# Altium schematic symbol library Diodes.SchLib: 20 symbols
Pins are listed as number, name and electrical type; pins without a type are passive.

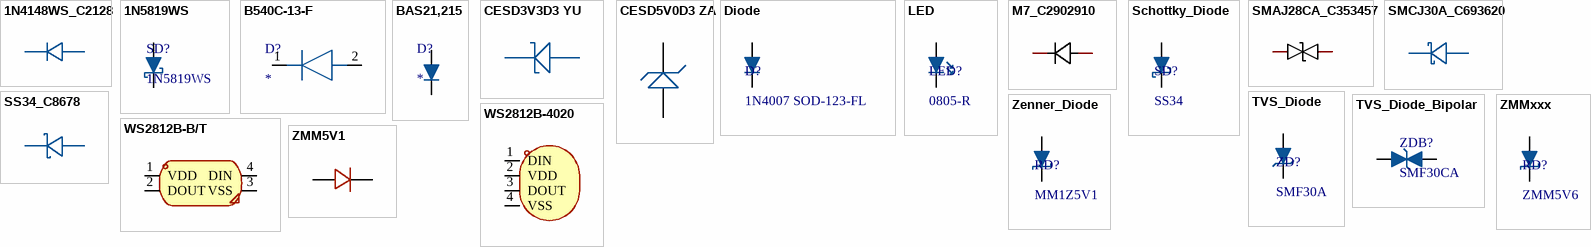
[diagram p0: symbols 1N4148WS_C2128 to ZMMxxx]

## 1N4148WS_C2128
designator D??  (value not drawn)
二极管配置:独立式;功率:200mW;直流反向耐压(Vr):100V;平均整流电流(Io):150mA;正向压降(Vf):1.25V@150mA;反向电流(Ir):1uA@75V;反向恢复时间(trr):4ns;工作温度:+150℃@(Tj);; Manufacturer: CJ(江苏长电/长晶); Symbol: 1N4148WS T4; Add into BOM: yes; Diode Configuration: 独立式; Power Dissipation: 200mW; Reverse Voltage (Vr): 100V; Average Rectified Current (Io): 150mA; Reverse Recovery Time (trr): 4ns; Name: 1N4148WS; Device: 1N4148WS_C2128; LCSC Part Name: 100V 150mA 4ns T4; Supplier Part: C2128; Manufacturer Part: 1N4148WS; Supplier Footprint: SOD-323; Supplier: LCSC; Convert to PCB: yes; Forward Voltage (Vf@If): 1.25V@150mA; Reverse Leakage Current: 1uA@75V; Operating Temperature: +150℃@(Tj)
footprint SOD-323_L1.8-W1.3-LS2.5-RD
3D model SOD-323_L1.7-W1.3-H1.1-LS2.5
pins: 1 K, 2 A

## 1N5819WS
designator SD?
SCHOTTKY BARRIER DIODE, 40V, 1A; Type: 1N5819WS
footprint SODFL250X115-2N_SOD323 (SODFL, 2-Leads, Body 1.25x2.50mm, IPC Medium Density)
pins: 1, 2

## B540C-13-F
designator D?
Diode; Manufacturer_Name: Diodes Incorporated; Manufacturer_Part_Number: B540C-13-F; Datasheet Link: https://componentsearchengine.com/Datasheets/2/B540C-13-F.pdf; Height: 2.5mm; Mouser Part Number: 621-B540C-F; Mouser Price/Stock: https://www.mouser.co.uk/ProductDetail/Diodes-Incorporated/B540C-13-F?qs=v2dnQLbuoRZXHN%2FK4ft5%252Bg%3D%3D; Arrow Part Number: B540C-13-F; Arrow Price/Stock: https://www.arrow.com/en/products/b540c-13-f/diodes-incorporated?region=nac
footprint DIOM7959X250N
pins: 1, 2

## BAS21,215
designator D?
Diode; Manufacturer_Name: Nexperia; Manufacturer_Part_Number: BAS21,215; Datasheet Link: https://assets.nexperia.com/documents/data-sheet/BAS21.pdf; Height: 1.1mm; Mouser Part Number: 771-BAS21-T/R; Mouser Price/Stock: https://www.mouser.co.uk/ProductDetail/Nexperia/BAS21215?qs=me8TqzrmIYVAUvbefFMRnQ%3D%3D; Arrow Part Number: BAS21,215; Arrow Price/Stock: https://www.arrow.com/en/products/bas21215/nexperia
footprint SOT-23 (SOT23, 3-Leads, Body 2.90x2.45mm, Pitch 0.95mm, IPC Medium Density)
footprint BAS21215
pins: 1 A, 3 K

## CESD3V3D3 YU
designator E??  (value not drawn)
极性:单向;反向截止电压(Vrwm):3.3V;击穿电压(VBR):5V;钳位电压(Vc)@Ipp:13V;; Manufacturer: CJ(江苏长电/长晶); Add into BOM: yes; Polarity: 单向; Reverse Stand-Off Voltage (Vrwm): 3.3V; Breakdown Voltage (VBR): 5V; Peak Pulse Current(Ipp)@8/20us: 16A; Clamping Voltage@Ipp: 13V; Name: CESD3V3D3 YU; Symbol: CESD3V3D3; Device: CESD3V3D3 YU; LCSC Part Name: 单向ESD; Supplier Part: C38388; Manufacturer Part: CESD3V3D3 YU; Supplier Footprint: SOD-323; Datasheet: https://atta.szlcsc.com/upload/public/pdf/source/20150915/1457707371129.pdf; Supplier: LCSC; Convert to PCB: yes
footprint SOD-323_L1.8-W1.3-LS2.5-RD
3D model SOD-323_L1.7-W1.3-H1.1-LS2.5
pins: 1, 2

## CESD5V0D3 ZA
designator E??  (value not drawn)
Manufacturer: CJ(江苏长电/长晶); Add into BOM: yes; Polarity: 单向; Breakdown Voltage (VBR): 6.2V; Peak Pulse Current(Ipp)@8/20us: 15A; Reverse Stand-Off Voltage (Vrwm): 5V; Clamping Voltage@Ipp: 15.5V; Name: CESD5V0D3 ZA; Symbol: CESD5V0D3 ZA; Device: CESD5V0D3 ZA; LCSC Part Name: 单向ESD; Supplier Part: C22643; Manufacturer Part: CESD5V0D3 ZA; Supplier Footprint: SOD-323; JLCPCB Part Class: Extended Part; Datasheet: https://atta.szlcsc.com/upload/public/pdf/source/20140301/1457707004115.pdf; Supplier: LCSC; Convert to PCB: yes
footprint SOD-323_L1.8-W1.3-LS2.5-RD
3D model SOD-323_L1.7-W1.3-H1.1-LS2.5
pins: 1, 2

## Diode
designator D?, comment 1N4007 SOD-123-FL
Generic; Type2: M7 SMA(DO-214AC); Type3: SM4007PL  SOD-123FL; Type: 1N4007 SOD-123-FL
footprint SOD123-FL (SODFL, 2-Leads, Body 1.60x3.70mm, IPC Medium Density)
footprint SMA/DO214AC (Molded Diode, 2-Leads, Body 5.14x2.56mm, IPC Medium Density)
pins: 1, 2

## LED
designator LED?, comment 0805-R
Light Emitting Diode; Type2: DIP-HDR1*2-R; Type: 0805-R
footprint DIOC2012X11N__0805DIO (Chip Diode, 2-Leads, Body 2.00x1.25mm, IPC Medium Density)
footprint HDR1X2 (Connector; Header; 2 Position)
footprint LED0603-RD_RED
pins: 1, 2

## M7_C2902910
designator U??  (value not drawn)
Manufacturer: MSKSEMI(美森科); Manufacturer Part: M7; Add into BOM: yes; Forward Voltage (Vf@If): 1.1V@1A; Reverse Voltage (Vr): 1kV; Average Rectified Current (Io): 1A; Reverse Leakage Current: 5uA@1kV; Symbol: M7_C2902910; Device: M7_C2902910; LCSC Part Name: 电压:1kV 电流:1A; Supplier Part: C2902910; Supplier Footprint: DO-214AC; JLCPCB Part Class: Extended Part; Datasheet: https://atta.szlcsc.com/upload/public/pdf/source/20230818/6D837163743024F173AA17A66C45A9BC.pdf; Supplier: LCSC; Convert to PCB: yes; Diode Configuration: -
footprint SMA_L4.5-W2.7-LS5.1-RD
pins: 1 Cathode, 2 Anode

## Schottky_Diode
designator SD?, comment SS34
Schottky style diode; Type: SS34
footprint SMA/DO214AC (Molded Diode, 2-Leads, Body 5.14x2.56mm, IPC Medium Density)
pins: 1, 2

## SMAJ28CA_C353457
designator D??, comment SMAJ28CA  (value not drawn)
C353457; Manufacturer: 晶导微电子; Symbol: SMAJ28CA_C353457; Add into BOM: yes; Reverse Stand-Off Voltage (Vrwm): 28V; Maximum Clamping Voltage: 45.4V; Peak Pulse Current (Ipp)@10/1000us: 8.8A; Breakdown Voltage: 31.1V; Reverse Leakage Current (Ir): 1uA; Type: TVS; Device: SMAJ28CA_C353457; LCSC Part Name: 双向TVS 28V截止 8.8A峰值脉冲; Supplier Part: C353457; Manufacturer Part: SMAJ28CA; Supplier Footprint: SMA; JLCPCB Part Class: Extended Part; Datasheet: https://atta.szlcsc.com/upload/public/pdf/source/20190103/C353498_9C52E1B7CA7D9691073072057BB1DA1A.pdf; Supplier: LCSC; Convert to PCB: yes
footprint SMA_L4.3-W2.5-LS5.0-BI
pins: 1, 2

## SMCJ30A_C693620
designator D??  (value not drawn)
Manufacturer: FTR(乔光电子); Add into BOM: yes; polarity: 单向; Reverse Stand-Off Voltage (Vrwm): 30V; Maximum Clamping Voltage: 48.4V; Peak Pulse Current (Ipp)@10/1000us: 31A; Breakdown Voltage: 33.3V; Name: SMCJ30A; Symbol: SMCJ30A_C693620; Device: SMCJ30A_C693620; LCSC Part Name: SMCJ30A; Supplier Part: C693620; Manufacturer Part: SMCJ30A; Supplier Footprint: SMC(DO-214AB); JLCPCB Part Class: Extended Part; Datasheet: https://atta.szlcsc.com/upload/public/pdf/source/20200702/C693547_038122F463C15F3D55BC5385490E6510.pdf; Supplier: LCSC; Convert to PCB: yes
footprint SMC_L7.2-W5.9-LS7.9-R-RD
3D model SMC_L7.2-W5.9-LS7.9-R-RD
pins: 1 A, 2 K

## SS34_C8678
designator D??  (value not drawn)
二极管配置:独立式;直流反向耐压(Vr):40V;平均整流电流(Io):3A;正向压降(Vf):550mV@3A;; Manufacturer: MDD; Name: SS34; Add into BOM: yes; Diode Configuration: 独立式; Reverse Voltage (Vr): 40V; Average Rectified Current (Io): 3A; Reverse Leakage Current (Ir): 500uA@40V; Symbol: SS34_C8678; Device: SS34_C8678; LCSC Part Name: 40V 3A 550mV@3A; Supplier Part: C8678; Manufacturer Part: SS34; Supplier Footprint: SMA(DO-214AC); Datasheet: https://atta.szlcsc.com/upload/public/pdf/source/20230314/A80AE34493C69B89E2F4B1712F433538.pdf; Supplier: LCSC; Convert to PCB: yes; Forward Voltage (Vf@If): 550mV@3A
footprint SMA_L4.3-W2.6-LS5.2-RD
3D model SMA_L4.3-W2.6-LS5.2-RD
pins: 1 K, 2 A

## TVS_Diode
designator ZD?, comment SMF30A
Transient Voltage Supressor; Type: SMF30A
footprint SMA/DO214AC (Molded Diode, 2-Leads, Body 5.14x2.56mm, IPC Medium Density)
footprint SOD123-FL (SODFL, 2-Leads, Body 1.60x3.70mm, IPC Medium Density)
footprint SMB/DO214AA (Molded Diode, 2-Leads, Body 4.31x3.62mm, IPC Medium Density)
pins: 1, 2

## TVS_Diode_Bipolar
designator ZDB?, comment SMF30CA
Bipolar Transient Voltage Supressor; Type: SMF30CA
footprint SMA/DO214AC-BIPOLAR (Molded Diode, 2-Leads, Body 5.14x2.56mm, IPC Medium Density)
footprint SOD123-FL-BIPOLAR (SODFL, 2-Leads, Body 1.60x3.70mm, IPC Medium Density)
pins: 1, 2

## WS2812B-4020
designator LED??  (value not drawn)
Manufacturer: worldsemi; Add into BOM: yes; Emitted Color: RGB三色; Forward Current: 12mA; Dominant Wavelength: 465nm~475nm；620nm~625nm；515nm~525nm; Name: WS2812B-4020; Symbol: WS2812B-4020; Device: WS2812B-4020; LCSC Part Name: RGB三色 （注意防潮，请查阅规格书中对应具体内容）; Supplier Part: C965557; Manufacturer Part: WS2812B-4020; Supplier Footprint: SMD,2x4mm; JLCPCB Part Class: Extended Part; Datasheet: https://atta.szlcsc.com/upload/public/pdf/source/20201203/C965557_D4D919E14814D6BA44043987D39B5520.pdf; Supplier: LCSC; Convert to PCB: yes; Diode Configuration: -; Power Dissipation: -; Lens Color: -; Peak Wavelength: -; Color Temperature: -; Viewing Angle: -; Mounting Sytle: -; Operating Temperature: -
footprint LED-SMD_WS2812B-4020
3D model LED-SMD_WS2812B-4020
pins: 1 DIN, 2 VDD, 3 DOUT, 4 VSS

## WS2812B-B/T
designator LED??  (value not drawn)
Manufacturer: worldsemi; Symbol: WS2812B-B/W; Add into BOM: yes; Emitted Color: RGB三色; Forward Current: 12mA; Dominant Wavelength: 621nm；471nm；520nm; Name: WS2812B-B/T; Device: WS2812B-B/T; LCSC Part Name: RGB三色 （注意防潮，请查阅规格书中对应具体内容）; Supplier Part: C2761795; Manufacturer Part: WS2812B-B/T; Supplier Footprint: SMD5050; JLCPCB Part Class: Extended Part; Datasheet: https://atta.szlcsc.com/upload/public/pdf/source/20210325/C2761795_907BBA23E6851820B8D2F0AFC80FAFDD.pdf; Supplier: LCSC; Convert to PCB: yes; Diode Configuration: -; Power Dissipation: -; Lens Color: -; Peak Wavelength: -; Color Temperature: -; Viewing Angle: -; Mounting Sytle: -; Operating Temperature: -
footprint LED-SMD_4P-L5.0-W5.0-TL_WS2812B-B
3D model LED-SMD_4P-L5.0-W5.0-H1.57-TL_WS2812B-B
pins: 1 VDD, 2 DOUT, 3 VSS, 4 DIN

## Zenner_Diode
designator RD?, comment MM1Z5V1
Zenner; Type: MM1Z5V1
footprint SOD123-FL (SODFL, 2-Leads, Body 1.60x3.70mm, IPC Medium Density)
pins: 1, 2

## ZMM5V1
designator D??, comment ZMM5V1-MS  (value not drawn)
C5345992 稳压二极管; Manufacturer: MSKSEMI(美森科); Add into BOM: yes; Diode Configuration: 独立式; Zener Voltage (Nom): 5.1V; Reverse Leakage Current (Ir): 100nA@1V; Zener Voltage (Range): 4.8V~5.4V; Power Dissipation: 500mW; Zener Impedance (Zzt): 35Ω; Symbol: ZMM5V1-MS; Device: ZMM5V1-MS; LCSC Part Name: ZMM5V1-MS; Supplier Part: C2982194; Manufacturer Part: ZMM5V1-MS; Supplier Footprint: LL-34; JLCPCB Part Class: Extended Part; Datasheet: https://atta.szlcsc.com/upload/public/pdf/source/20231010/C15F051C55DBE843929F666D274744F9.pdf; Supplier: LCSC; Convert to PCB: yes; Tolerance: -
footprint LL-34_L3.5-W1.5-LS3.5-FD
pins: 1 A, 2 C

## ZMMxxx
designator RD?, comment ZMM5V6
SILICON PLANAR ZENER DIODES; Type: ZMM5V6
footprint DIOMELF3514N__LL34 (MELF Diode, 2-Leads, Body 3.50x1.45mm, IPC Medium Density)
pins: 1, 2